# Altium footprint library WE-PMFI.PcbLib: 7 footprints
Each footprint in its own frame and in the unit in brackets; x right, y up, seen from the top. Pads: shape width x height; smd on the part's side, far side on the other; paste and mask are expansions set on the pad; w line width, h text height; cw(c..) or ccw(c..) is an arc to the next point about the centre after c.
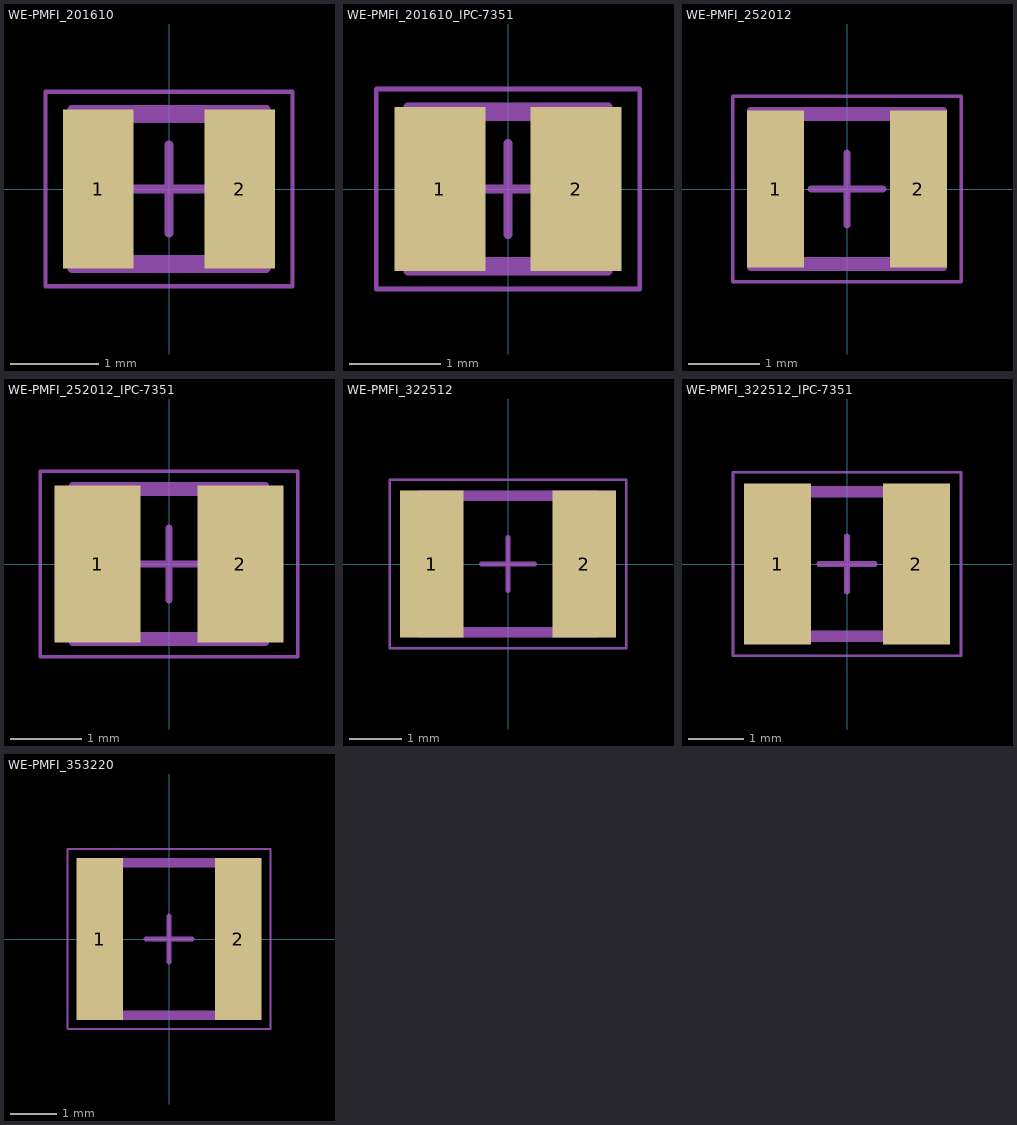
[diagram p0: the footprints below, top view; thin cyan lines are the x and y axes]

## WE-PMFI_201610 [mm] "SMT Power Inductor, body 2.00 x 1.60 mm"
height 1
pads (2):
  rect 0.8x1.8 smd: 1(-0.8,0) 2(0.8,0)
Top Assembly:
  lines w0.1: -1.1,-0.9 1.1,-0.9 1.1,0.9 -1.1,0.9 -1.1,-0.9
Top Designator:
  text ".Designator" at -3.647,-0.357 h1
Top 3D Body:
  lines w0.1: -1,-0.8 -1,0.8 1,0.8 1,-0.8 -1,-0.8
Top Courtyard:
  lines w0.05: -1.4,-1.1 1.4,-1.1 1.4,1.1 -1.4,1.1 -1.4,-1.1
Top Component Center:
  lines w0.1: -0.5,0 0.5,0 ; 0,-0.5 0,0.5
3D body "74479320165xxx_201610.stp": height 1, standoff 0, extent -1,-0.8 1,0.8

## WE-PMFI_201610_IPC-7351 [mm] "SMT Power Inductor, body 2.00 x 1.60 mm"
height 1
pads (2):
  rect 1x1.8 smd: 1(-0.75,0) 2(0.75,0)
Top Assembly:
  lines w0.1: -1.1,-0.9 1.1,-0.9 1.1,0.9 -1.1,0.9 -1.1,-0.9
Top Designator:
  text ".Designator" at -3.647,-0.357 h1
Top 3D Body:
  lines w0.1: -1,-0.8 -1,0.8 1,0.8 1,-0.8 -1,-0.8
Top Courtyard:
  lines w0.05: -1.45,-1.1 -1.45,1.1 1.45,1.1 1.45,-1.1 -1.45,-1.1
Top Component Center:
  lines w0.1: -0.5,0 0.5,0 ; 0,-0.5 0,0.5
3D body "74479320165xxx_201610.stp": height 1, standoff 0, extent -1,-0.8 1,0.8

## WE-PMFI_252012 [mm] "SMT Power Inductor, body 2.50 x 1.20 mm"
height 1.2
pads (2):
  rect 0.8x2.2 smd: 1(-1,0) 2(1,0)
Top Assembly:
  lines w0.1: -1.35,-1.1 -1.35,1.1 1.35,1.1 1.35,-1.1 -1.35,-1.1
Top Designator:
  text ".Designator" at -3.647,-0.357 h1
Top 3D Body:
  lines w0.1: -1.25,-1 1.25,-1 1.25,1 -1.25,1 -1.25,-1
Top Courtyard:
  lines w0.05: -1.6,-1.3 -1.6,1.3 1.6,1.3 1.6,-1.3 -1.6,-1.3
Top Component Center:
  lines w0.1: -0.5,0 0.5,0 ; 0,-0.5 0,0.5
3D body "74479325207xxx_252012.stp": height 1.2, standoff 0, extent -1.25,-1 1.25,1

## WE-PMFI_252012_IPC-7351 [mm] "SMT Power Inductor, body 2.50 x 1.20 mm"
height 1.2
pads (2):
  rect 1.2x2.2 smd: 1(-1,0) 2(1,0)
Top Assembly:
  lines w0.1: -1.35,-1.1 1.35,-1.1 1.35,1.1 -1.35,1.1 -1.35,-1.1
Top Designator:
  text ".Designator" at -3.647,-0.357 h1
Top 3D Body:
  lines w0.1: -1.25,-1 -1.25,1 1.25,1 1.25,-1 -1.25,-1
Top Courtyard:
  lines w0.05: -1.8,-1.3 1.8,-1.3 1.8,1.3 -1.8,1.3 -1.8,-1.3
Top Component Center:
  lines w0.1: -0.5,0 0.5,0 ; 0,-0.5 0,0.5
3D body "74479325207xxx_252012.stp": height 1.2, standoff 0, extent -1.25,-1 1.25,1

## WE-PMFI_322512 [mm] "SMT Power Inductor, body 3.20 x 2.50 mm"
height 1.2
pads (2):
  rect 1.2x2.8 smd: 1(-1.45,0) 2(1.45,0)
Top Assembly:
  lines w0.1: -1.7,-1.35 1.7,-1.35 1.7,1.35 -1.7,1.35 -1.7,-1.35
Top Designator:
  text ".Designator" at -3.647,-0.357 h1
Top 3D Body:
  lines w0.1: -1.6,-1.25 -1.6,1.25 1.6,1.25 1.6,-1.25 -1.6,-1.25
Top Courtyard:
  lines w0.05: -2.25,-1.6 2.25,-1.6 2.25,1.6 -2.25,1.6 -2.25,-1.6
Top Component Center:
  lines w0.1: -0.5,0 0.5,0 ; 0,-0.5 0,0.5
3D body "74479332257xxx_322512.stp": height 1.2, standoff 0, extent -1.6,-1.25 1.6,1.25

## WE-PMFI_322512_IPC-7351 [mm] "SMT Power Inductor, body 3.20 x 2.50 mm"
height 1.2
pads (2):
  rect 1.2x2.9 smd: 1(-1.25,0) 2(1.25,0)
Top Assembly:
  lines w0.1: -1.7,-1.35 1.7,-1.35 1.7,1.35 -1.7,1.35 -1.7,-1.35
Top Designator:
  text ".Designator" at -3.647,-0.357 h1
Top 3D Body:
  lines w0.1: -1.6,-1.25 -1.6,1.25 1.6,1.25 1.6,-1.25 -1.6,-1.25
Top Courtyard:
  lines w0.05: -2.05,-1.65 2.05,-1.65 2.05,1.65 -2.05,1.65 -2.05,-1.65
Top Component Center:
  lines w0.1: -0.5,0 0.5,0 ; 0,-0.5 0,0.5
3D body "74479332257xxx_322512.stp": height 1.2, standoff 0, extent -1.6,-1.25 1.6,1.25

## WE-PMFI_353220 [mm] "SMT Power Inductor, body 3.50 x 3.20 mm"
height 2
pads (2):
  rect 1x3.5 smd: 1(-1.5,0) 2(1.5,0)
Top Assembly:
  lines w0.1: -1.85,-1.7 -1.85,1.7 1.85,1.7 1.85,-1.7 -1.85,-1.7
Top Designator:
  text ".Designator" at -3.647,-0.357 h1
Top 3D Body:
  lines w0.1: -1.75,-1.6 1.75,-1.6 1.75,1.6 -1.75,1.6 -1.75,-1.6
Top Courtyard:
  lines w0.05: -2.2,-1.95 -2.2,1.95 2.2,1.95 2.2,-1.95 -2.2,-1.95
Top Component Center:
  lines w0.1: -0.5,0 0.5,0 ; 0,-0.5 0,0.5
3D body "74479335329xxx_353220.stp": height 2, standoff 0, extent -1.75,-1.6 1.75,1.6